# EAGLE library part MCP3911 (library (custom)-new-components)
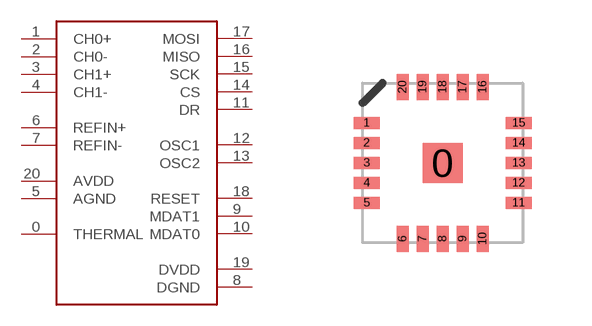
[diagram p16: symbol with the pads of QFN20; footprint QFN20]

Designator prefix -

## MCP3911  [QFN20]
0  THERMAL
1  CH0+
2  CH0-
3  CH1+
4  CH1-
5  AGND
6  REFIN+
7  REFIN-
8  DGND
9  MDAT1
10  MDAT0
11  DR
12  OSC1
13  OSC2
14  CS
15  SCK
16  MISO
17  MOSI
18  RESET
19  DVDD
20  AVDD

## Footprint QFN20 (pad centres in mm)
smd 1 x 1: 0 0,0
smd 0.65 x 0.3: 1 -1.9,1; 2 -1.9,0.5; 3 -1.9,0; 4 -1.9,-0.5; 5 -1.9,-1; 11 1.9,-1; 12 1.9,-0.5; 13 1.9,0; 14 1.9,0.5; 15 1.9,1
smd 0.3 x 0.65: 6 -1,-1.9; 7 -0.5,-1.9; 8 0,-1.9; 9 0.5,-1.9; 10 1,-1.9; 16 1,1.9; 17 0.5,1.9; 18 0,1.9; 19 -0.5,1.9; 20 -1,1.9